# Altium footprint library PJ-002A.PcbLib: 1 footprints
Each footprint in its own frame and in the unit in brackets; x right, y up, seen from the top. Pads: shape width x height; smd on the part's side, far side on the other; paste and mask are expansions set on the pad; w line width, h text height; cw(c..) or ccw(c..) is an arc to the next point about the centre after c.
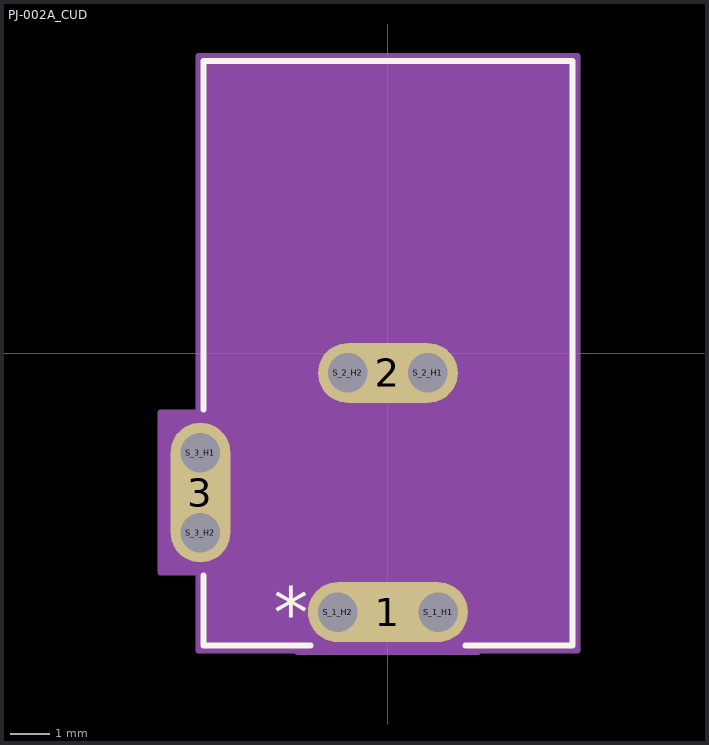
[diagram p0: the footprint, top view; thin cyan lines are the x and y axes]

## PJ-002A_CUD [mil]
pads (9):
  oval 158x59 smd paste+0 mask+0: 1(0,-255.5)
  oval 138x59 smd paste+0 mask+0: 2(0,-19.5)
  oval 59x138 smd paste+0 mask+0: 3(-185,-137.5)
  round 39 / inner round 60 / far side round 39 hole 39 unplated paste-19.5 mask-19.5: S_1_H1(49.5,-255.5) S_1_H2(-49.5,-255.5) S_2_H1(39.5,-19.5) S_2_H2(-39.5,-19.5) S_3_H1(-185,-98) S_3_H2(-185,-177)
Top Overlay:
  lines w6: -182,-219.49 -182,-288.5 -76.44,-288.5 ; -182,-55.51 -182,288.5 182,288.5 182,-288.5 76.44,-288.5
  text "*" at -112.5,-280.5 h50
Mechanical 13:
  lines w1: -177,-186.5 -193,-186.5 -193,-88.5 -177,-88.5 ; -177,-283.5 -177,283.5 177,283.5 177,-283.5 -177,-283.5
  text "*" at -112.5,-280.5 h50
Mechanical 15:
  region: 89,-293.5 187,-293.5 187,293.5 -187,293.5 -187,-58.5 -224.5,-58.5 -224.5,-216.5 -187,-216.5 -187,-293.5 -89,-293.5 -89,-295 89,-295
  lines w6: -224.5,-216.5 -224.5,-58.5 -187,-58.5 -187,293.5 187,293.5 187,-293.5 89,-293.5 89,-295 -89,-295 -89,-293.5 -187,-293.5 -187,-216.5 -224.5,-216.5
Multi-Layer:
  lines w39: -185,-177 -185,-98 ; -49.5,-255.5 49.5,-255.5 ; -39.5,-19.5 39.5,-19.5